# EAGLE library part DAC7801 (library burr-brown)
Dual Monolithic CMOS 12-Bit DAC Multiplying
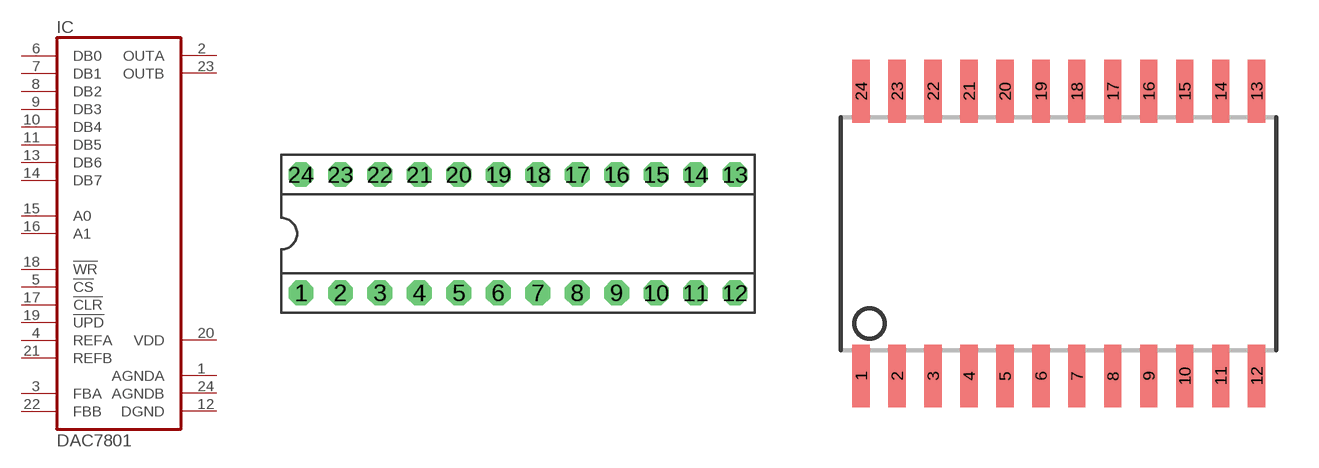
[diagram p163: symbol with the pads of DIL24-3; footprints DIL24-3, SO24L]

Designator prefix IC

## DAC7801P (MF: TEXAS INSTRUMENT CONNECTORS; MPN: DAC7801KP; OC_FARNELL: 1460235; OC_NEWARK: 14M8160)  [DIL24-3]
1  AGNDA  pwr
2  OUTA  out
3  FBA  pas
4  REFA  in
5  !CS  in
6  DB0  in
7  DB1  in
8  DB2  in
9  DB3  in
10  DB4  in
11  DB5  in
12  DGND  pwr
13  DB6  in
14  DB7  in
15  A0  in
16  A1  in
17  !CLR  in
18  !WR  in
19  !UPD  in
20  VDD  pwr
21  REFB  in
22  FBB  pas
23  OUTB  out
24  AGNDB  pwr

## DAC7801U (MPN: DAC7801KU; OC_FARNELL: 1460236; OC_NEWARK: 61M5748)  [SO24L]
Pads as for DIL24-3

## Footprint DIL24-3 (pad centres in mm)
Dual In Line 0.3 inch
drill 0.813 pad 1.6 octagon: 1 -13.97,-3.81; 2 -11.43,-3.81; 3 -8.89,-3.81; 4 -6.35,-3.81; 5 -3.81,-3.81; 6 -1.27,-3.81; 7 1.27,-3.81; 8 3.81,-3.81; 9 6.35,-3.81; 10 8.89,-3.81; 11 11.43,-3.81; 12 13.97,-3.81; 13 13.97,3.81; 14 11.43,3.81; 15 8.89,3.81; 16 6.35,3.81; 17 3.81,3.81; 18 1.27,3.81; 19 -1.27,3.81; 20 -3.81,3.81; 21 -6.35,3.81; 22 -8.89,3.81; 23 -11.43,3.81; 24 -13.97,3.81

## Footprint SO24L (pad centres in mm)
Small Outline Package, large
smd 0.61 x 2.21: 1 -6.985,-5.029; 2 -5.715,-5.029; 3 -4.445,-5.029; 4 -3.175,-5.029; 5 -1.905,-5.029; 6 -0.635,-5.029; 7 0.635,-5.029; 8 1.905,-5.029; 9 3.175,-5.029; 10 4.445,-5.029; 11 5.715,-5.029; 12 6.985,-5.029; 13 6.985,5.029; 14 5.715,5.029; 15 4.445,5.029; 16 3.175,5.029; 17 1.905,5.029; 18 0.635,5.029; 19 -0.635,5.029; 20 -1.905,5.029; 21 -3.175,5.029; 22 -4.445,5.029; 23 -5.715,5.029; 24 -6.985,5.029